# Altium schematic symbol library 18B20.SchLib: 1 symbol
Pins are listed as number, name and electrical type; pins without a type are passive.

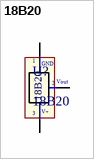
[diagram p0: symbol 18B20]

## 18B20
designator U?
Value: 18B20
footprint QTO-92 (TO-92)
pins: 1 GND (power), 2 Vout, 3 V+ (power)